# EAGLE library part INA233 (library counter)
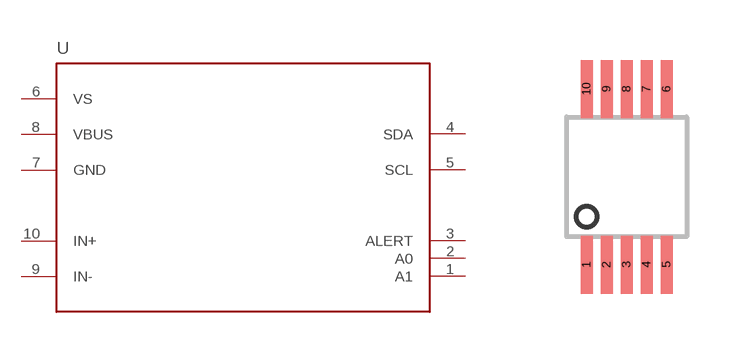
[diagram p0: symbol with the pads of VSSOP-10; footprint VSSOP-10]

Designator prefix -

## INA233  [VSSOP-10]
1  A1
2  A0
3  ALERT
4  SDA
5  SCL
6  VS
7  GND
8  VBUS
9  IN-
10  IN+

## Footprint VSSOP-10 (pad centres in mm)
smd 0.3 x 1.45: 1 -1,-2.2; 2 -0.5,-2.2; 3 0,-2.2; 4 0.5,-2.2; 5 1,-2.2; 6 1,2.2; 7 0.5,2.2; 8 0,2.2; 9 -0.5,2.2; 10 -1,2.2